# Altium schematic symbol library AD9837ACPZ-RL7.SchLib: 2 symbols
Pins are listed as number, name and electrical type; pins without a type are passive.

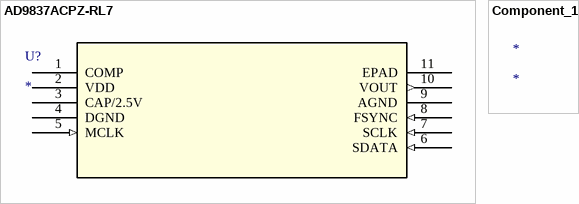
[diagram p0: symbols AD9837ACPZ-RL7 to Component_1]

## AD9837ACPZ-RL7
designator U?
No Description Available; Mfr_Name: Analog Devices Inc; RefDes: RefDes; Type: Type
footprint CP_10_9_ADI
pins: 1 COMP, 2 VDD (power), 3 CAP/2.5V, 4 DGND (power), 5 MCLK (in), 6 SDATA (in), 7 SCLK (in), 8 FSYNC (in), 9 AGND (power), 10 VOUT (out), 11 EPAD

## Component_1
designator *